# Altium footprint library BGA.PcbLib: 8 footprints
Each footprint in its own frame and in the unit in brackets; x right, y up, seen from the top. Pads: shape width x height; smd on the part's side, far side on the other; paste and mask are expansions set on the pad; w line width, h text height; cw(c..) or ccw(c..) is an arc to the next point about the centre after c.
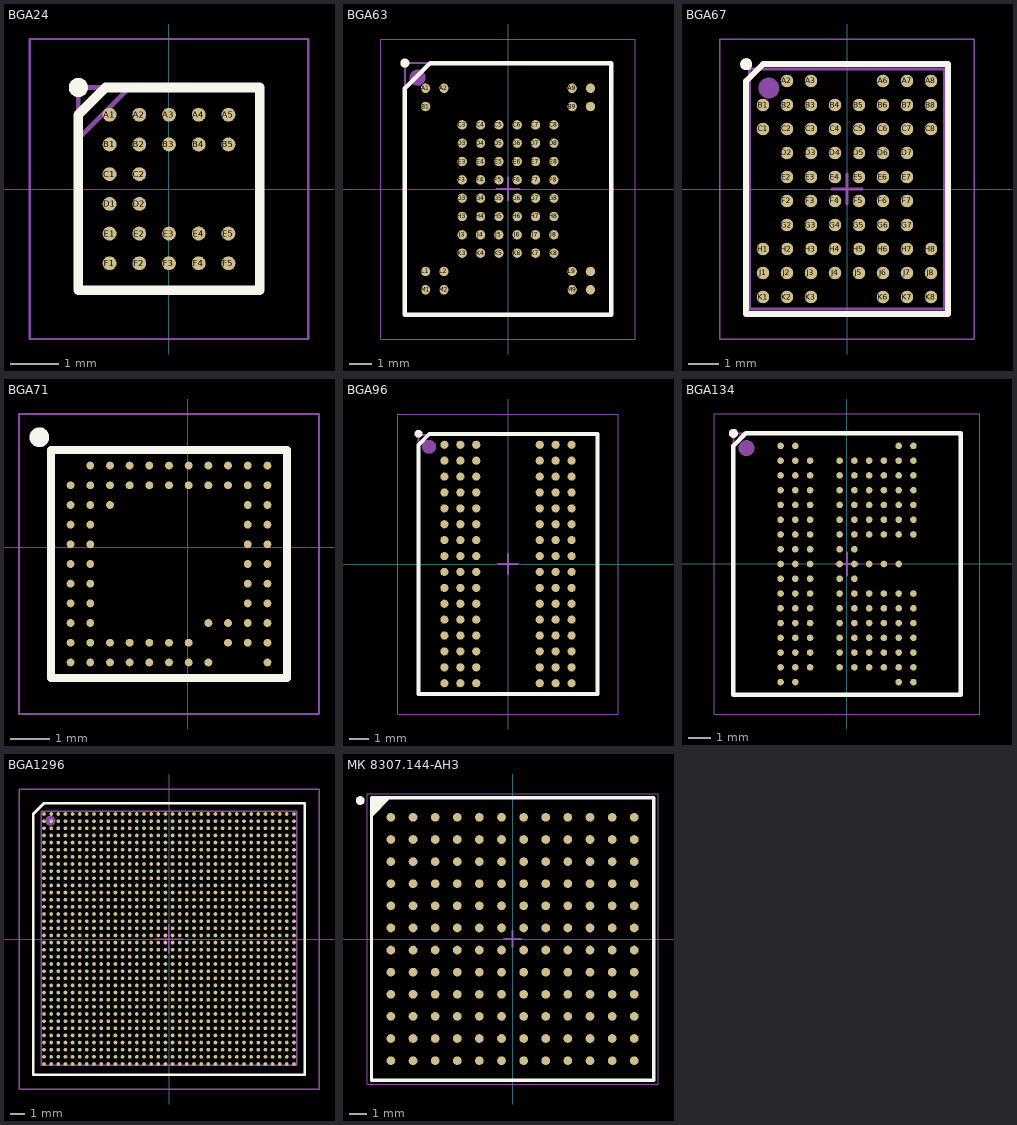
[diagram p0: the footprints below, top view; thin cyan lines are the x and y axes]

## BGA24 [mm]
height 1.75
pads (24):
  round 0.29 smd: A1(-1.24,1.55) A2(-0.62,1.55) A3(0,1.55) A4(0.62,1.55) A5(1.24,1.55) B1(-1.24,0.93) B2(-0.62,0.93) B3(0,0.93) B4(0.62,0.93) B5(1.24,0.93) C1(-1.24,0.31) C2(-0.62,0.31) D1(-1.24,-0.31) D2(-0.62,-0.31) E1(-1.24,-0.93) E2(-0.62,-0.93) E3(0,-0.93) E4(0.62,-0.93) E5(1.24,-0.93) F1(-1.24,-1.55) F2(-0.62,-1.55) F3(0,-1.55) F4(0.62,-1.55) F5(1.24,-1.55)
Top Overlay:
  circle w0.2: c-1.892,2.118 r0.1
  lines w0.2: -1.325,2.118 1.893,2.118 1.893,-2.117 -1.892,-2.117 -1.892,1.551 -1.324,2.119
Top Assembly:
  lines w0.1: -1.892,1.052 -0.827,2.117 ; -1.892,-2.117 -1.892,2.118 1.893,2.118 1.893,-2.117 -1.892,-2.117
Top Courtyard (Mech15):
  lines w0.05: -2.905,-3.13 -2.905,3.13 2.905,3.13 2.905,-3.13 -2.905,-3.13
3D body "OV7670-VL2A.stp": height 0.94, standoff 0, extent -1.893,-2.117 1.893,2.117

## BGA63 [mm]
pads (63):
  round 0.41 smd: A1(-3.6,4.4) A2(-2.8,4.4) A9(2.8,4.4) A10(3.6,4.4) B1(-3.6,3.6) B9(2.8,3.6) B10(3.6,3.6) C3(-2,2.8) C4(-1.2,2.8) C5(-0.4,2.8) C6(0.4,2.8) C7(1.2,2.8) C8(2,2.8) D3(-2,2) D4(-1.2,2) D5(-0.4,2) D6(0.4,2) D7(1.2,2) D8(2,2) E3(-2,1.2) E4(-1.2,1.2) E5(-0.4,1.2) E6(0.4,1.2) E7(1.2,1.2) E8(2,1.2) F3(-2,0.4) F4(-1.2,0.4) F5(-0.4,0.4) F6(0.4,0.4) F7(1.2,0.4) F8(2,0.4) G3(-2,-0.4) G4(-1.2,-0.4) G5(-0.4,-0.4) G6(0.4,-0.4) G7(1.2,-0.4) G8(2,-0.4) H3(-2,-1.2) H4(-1.2,-1.2) H5(-0.4,-1.2) H6(0.4,-1.2) H7(1.2,-1.2) H8(2,-1.2) J3(-2,-2) J4(-1.2,-2) J5(-0.4,-2) J6(0.4,-2) J7(1.2,-2) J8(2,-2) K3(-2,-2.8) K4(-1.2,-2.8) K5(-0.4,-2.8) K6(0.4,-2.8) K7(1.2,-2.8) K8(2,-2.8) L1(-3.6,-3.6) L2(-2.8,-3.6) L9(2.8,-3.6) L10(3.6,-3.6) M1(-3.6,-4.4) M2(-2.8,-4.4) M9(2.8,-4.4) M10(3.6,-4.4)
Top Overlay:
  circle w0.2: c-4.5,5.5 r0.1
  lines w0.2: -4.5,-5.5 -4.5,4.4 -3.4,5.5 4.5,5.5 4.5,-5.5 -4.5,-5.5
Top Assembly:
  circle w0.4: c-3.949,4.864 r0.148
  lines w0.1: -0.5,0 0.5,0 ; 0,-0.5 0,0.5 ; -4.5,-5.5 -4.5,5.5 4.5,5.5 4.5,-5.5 -4.5,-5.5
Top Courtyard (Mech15):
  lines w0.05: -5.55,-6.55 -5.55,6.55 5.55,6.55 5.55,-6.55 -5.55,-6.55
3D body "MT29F2G08ABAGAH4-AAT_G.stp": height 1, standoff 0, extent -4.5,-5.5 4.5,5.5

## BGA67 [mm]
pads (67):
  round 0.418 smd: A2(-2,3.6) A3(-1.2,3.6) A6(1.2,3.6) A7(2,3.6) A8(2.8,3.6) B1(-2.8,2.8) B2(-2,2.8) B3(-1.2,2.8) B4(-0.4,2.8) B5(0.4,2.8) B6(1.2,2.8) B7(2,2.8) B8(2.8,2.8) C1(-2.8,2) C2(-2,2) C3(-1.2,2) C4(-0.4,2) C5(0.4,2) C6(1.2,2) C7(2,2) C8(2.8,2) D2(-2,1.2) D3(-1.2,1.2) D4(-0.4,1.2) D5(0.4,1.2) D6(1.2,1.2) D7(2,1.2) E2(-2,0.4) E3(-1.2,0.4) E4(-0.4,0.4) E5(0.4,0.4) E6(1.2,0.4) E7(2,0.4) F2(-2,-0.4) F3(-1.2,-0.4) F4(-0.4,-0.4) F5(0.4,-0.4) F6(1.2,-0.4) F7(2,-0.4) G2(-2,-1.2) G3(-1.2,-1.2) G4(-0.4,-1.2) G5(0.4,-1.2) G6(1.2,-1.2) G7(2,-1.2) H1(-2.8,-2) H2(-2,-2) H3(-1.2,-2) H4(-0.4,-2) H5(0.4,-2) H6(1.2,-2) H7(2,-2) H8(2.8,-2) J1(-2.8,-2.8) J2(-2,-2.8) J3(-1.2,-2.8) J4(-0.4,-2.8) J5(0.4,-2.8) J6(1.2,-2.8) J7(2,-2.8) J8(2.8,-2.8) K1(-2.8,-3.6) K2(-2,-3.6) K3(-1.2,-3.6) K6(1.2,-3.6) K7(2,-3.6) K8(2.8,-3.6)
Top Overlay:
  circle w0.2: c-3.359,4.159 r0.1
  lines w0.2: -3.359,-4.159 3.359,-4.159 3.359,4.159 -2.8,4.159 -3.359,3.6 -3.359,-4.159
Top Assembly:
  circle w0.4: c-2.606,3.364 r0.148
  lines w0.1: -0.5,0 0.5,0 ; 0,-0.5 0,0.5 ; -3.25,-4 3.25,-4 3.25,4 -3.25,4 -3.25,-4
Top Courtyard (Mech15):
  lines w0.05: -4.25,-5 4.25,-5 4.25,5 -4.25,5 -4.25,-5
3D body "TH58BYG3S0HBAI6.stp": height 1, standoff 0, extent -3.25,-4 3.25,4

## BGA71 [mm]
pads (71):
  round 0.2 smd paste-1 mask+0: A2(-2.48,2.07) A3(-1.98,2.07) A4(-1.48,2.07) A5(-0.98,2.07) A6(-0.48,2.07) A7(0.02,2.07) A8(0.52,2.07) A9(1.02,2.07) A10(1.52,2.07) A11(2.02,2.07) B1(-2.98,1.57) B2(-2.48,1.57) B3(-1.98,1.57) B4(-1.48,1.57) B5(-0.98,1.57) B6(-0.48,1.57) B7(0.02,1.57) B8(0.52,1.57) B9(1.02,1.57) B10(1.52,1.57) B11(2.02,1.57) C1(-2.98,1.07) C2(-2.48,1.07) C3(-1.98,1.07) C10(1.52,1.07) C11(2.02,1.07) D1(-2.98,0.57) D2(-2.48,0.57) D10(1.52,0.57) D11(2.02,0.57) E1(-2.98,0.07) E2(-2.48,0.07) E10(1.52,0.07) E11(2.02,0.07) F1(-2.98,-0.43) F2(-2.48,-0.43) F10(1.52,-0.43) F11(2.02,-0.43) G1(-2.98,-0.93) G2(-2.48,-0.93) G10(1.52,-0.93) G11(2.02,-0.93) H1(-2.98,-1.43) H2(-2.48,-1.43) H10(1.52,-1.43) H11(2.02,-1.43) I1(-2.98,-1.93) I2(-2.48,-1.93) I8(0.52,-1.93) I9(1.02,-1.93) I10(1.52,-1.93) I11(2.02,-1.93) J1(-2.98,-2.43) J2(-2.48,-2.43) J3(-1.98,-2.43) J4(-1.48,-2.43) J5(-0.98,-2.43) J6(-0.48,-2.43) J7(0.02,-2.43) J9(1.02,-2.43) J10(1.52,-2.43) J11(2.02,-2.43) K1(-2.98,-2.93) K2(-2.48,-2.93) K3(-1.98,-2.93) K4(-1.48,-2.93) K5(-0.98,-2.93) K6(-0.48,-2.93) K7(0.02,-2.93) K8(0.52,-2.93) K11(2.02,-2.93)
Top Overlay:
  circle w0.3: c-3.772,2.788 r0.1
  lines w0.203: -3.48,-3.33 2.52,-3.33 2.52,2.47 -3.48,2.47 -3.48,-3.33
Top Assembly:
  lines w0.05: -3.528,-3.377 -3.528,2.512 2.568,2.512 2.568,-3.377 -3.528,-3.377
Top Courtyard (Mech15):
  lines w0.05: -4.29,-4.24 3.33,-4.24 3.33,3.38 -4.29,3.38 -4.29,-4.24

## BGA96 [mm]
pads (96):
  round 0.41 smd: A1(-3.2,6) A2(-2.4,6) A3(-1.6,6) A7(1.6,6) A8(2.4,6) A9(3.2,6) B1(-3.2,5.2) B2(-2.4,5.2) B3(-1.6,5.2) B7(1.6,5.2) B8(2.4,5.2) B9(3.2,5.2) C1(-3.2,4.4) C2(-2.4,4.4) C3(-1.6,4.4) C7(1.6,4.4) C8(2.4,4.4) C9(3.2,4.4) D1(-3.2,3.6) D2(-2.4,3.6) D3(-1.6,3.6) D7(1.6,3.6) D8(2.4,3.6) D9(3.2,3.6) E1(-3.2,2.8) E2(-2.4,2.8) E3(-1.6,2.8) E7(1.6,2.8) E8(2.4,2.8) E9(3.2,2.8) F1(-3.2,2) F2(-2.4,2) F3(-1.6,2) F7(1.6,2) F8(2.4,2) F9(3.2,2) G1(-3.2,1.2) G2(-2.4,1.2) G3(-1.6,1.2) G7(1.6,1.2) G8(2.4,1.2) G9(3.2,1.2) H1(-3.2,0.4) H2(-2.4,0.4) H3(-1.6,0.4) H7(1.6,0.4) H8(2.4,0.4) H9(3.2,0.4) J1(-3.2,-0.4) J2(-2.4,-0.4) J3(-1.6,-0.4) J7(1.6,-0.4) J8(2.4,-0.4) J9(3.2,-0.4) K1(-3.2,-1.2) K2(-2.4,-1.2) K3(-1.6,-1.2) K7(1.6,-1.2) K8(2.4,-1.2) K9(3.2,-1.2) L1(-3.2,-2) L2(-2.4,-2) L3(-1.6,-2) L7(1.6,-2) L8(2.4,-2) L9(3.2,-2) M1(-3.2,-2.8) M2(-2.4,-2.8) M3(-1.6,-2.8) M7(1.6,-2.8) M8(2.4,-2.8) M9(3.2,-2.8) N1(-3.2,-3.6) N2(-2.4,-3.6) N3(-1.6,-3.6) N7(1.6,-3.6) N8(2.4,-3.6) N9(3.2,-3.6) P1(-3.2,-4.4) P2(-2.4,-4.4) P3(-1.6,-4.4) P7(1.6,-4.4) P8(2.4,-4.4) P9(3.2,-4.4) R1(-3.2,-5.2) R2(-2.4,-5.2) R3(-1.6,-5.2) R7(1.6,-5.2) R8(2.4,-5.2) R9(3.2,-5.2) T1(-3.2,-6) T2(-2.4,-6) T3(-1.6,-6) T7(1.6,-6) T8(2.4,-6) T9(3.2,-6)
Top Overlay:
  circle w0.2: c-4.5,6.555 r0.1
  lines w0.2: -4.5,-6.555 4.5,-6.555 4.5,6.555 -3.945,6.555 -4.5,6 -4.5,-6.555
Top Assembly:
  circle w0.4: c-3.974,5.899 r0.148
  lines w0.1: -0.5,0 0.5,0 ; 0,-0.5 0,0.5 ; -4.5,-6.5 4.5,-6.5 4.5,6.5 -4.5,6.5 -4.5,-6.5
Top Courtyard (Mech15):
  lines w0.05: -5.55,-7.55 5.55,-7.55 5.55,7.55 -5.55,7.55 -5.55,-7.55
3D body "IS43TR16640C-125JBLI.stp": height 1.2, standoff 0, extent -4.5,-6.5 4.5,6.5

## BGA134 [mm]
pads (134):
  round 0.29 smd: A1(-2.925,5.2) A2(-2.275,5.2) A9(2.275,5.2) A10(2.925,5.2) B1(-2.925,4.55) B2(-2.275,4.55) B3(-1.625,4.55) B5(-0.325,4.55) B6(0.325,4.55) B7(0.975,4.55) B8(1.625,4.55) B9(2.275,4.55) B10(2.925,4.55) C1(-2.925,3.9) C2(-2.275,3.9) C3(-1.625,3.9) C5(-0.325,3.9) C6(0.325,3.9) C7(0.975,3.9) C8(1.625,3.9) C9(2.275,3.9) C10(2.925,3.9) D1(-2.925,3.25) D2(-2.275,3.25) D3(-1.625,3.25) D5(-0.325,3.25) D6(0.325,3.25) D7(0.975,3.25) D8(1.625,3.25) D9(2.275,3.25) D10(2.925,3.25) E1(-2.925,2.6) E2(-2.275,2.6) E3(-1.625,2.6) E5(-0.325,2.6) E6(0.325,2.6) E7(0.975,2.6) E8(1.625,2.6) E9(2.275,2.6) E10(2.925,2.6) F1(-2.925,1.95) F2(-2.275,1.95) F3(-1.625,1.95) F5(-0.325,1.95) F6(0.325,1.95) F7(0.975,1.95) F8(1.625,1.95) F9(2.275,1.95) F10(2.925,1.95) G1(-2.925,1.3) G2(-2.275,1.3) G3(-1.625,1.3) G5(-0.325,1.3) G6(0.325,1.3) G7(0.975,1.3) G8(1.625,1.3) G9(2.275,1.3) G10(2.925,1.3) H1(-2.925,0.65) H2(-2.275,0.65) H3(-1.625,0.65) H5(-0.325,0.65) H6(0.325,0.65) J1(-2.925,0) J2(-2.275,0) J3(-1.625,0) J5(-0.325,0) J6(0.325,0) J7(0.975,0) J8(1.625,0) J9(2.275,0) K1(-2.925,-0.65) K2(-2.275,-0.65) K3(-1.625,-0.65) K5(-0.325,-0.65) K6(0.325,-0.65) L1(-2.925,-1.3) L2(-2.275,-1.3) L3(-1.625,-1.3) L5(-0.325,-1.3) L6(0.325,-1.3) L7(0.975,-1.3) L8(1.625,-1.3) L9(2.275,-1.3) L10(2.925,-1.3) M1(-2.925,-1.95) M2(-2.275,-1.95) M3(-1.625,-1.95) M5(-0.325,-1.95) M6(0.325,-1.95) M7(0.975,-1.95) M8(1.625,-1.95) M9(2.275,-1.95) M10(2.925,-1.95) N1(-2.925,-2.6) N2(-2.275,-2.6) N3(-1.625,-2.6) N5(-0.325,-2.6) N6(0.325,-2.6) N7(0.975,-2.6) N8(1.625,-2.6) N9(2.275,-2.6) N10(2.925,-2.6) P1(-2.925,-3.25) P2(-2.275,-3.25) P3(-1.625,-3.25) P5(-0.325,-3.25) P6(0.325,-3.25) P7(0.975,-3.25) P8(1.625,-3.25) P9(2.275,-3.25) P10(2.925,-3.25) R1(-2.925,-3.9) R2(-2.275,-3.9) R3(-1.625,-3.9) R5(-0.325,-3.9) R6(0.325,-3.9) R7(0.975,-3.9) R8(1.625,-3.9) R9(2.275,-3.9) R10(2.925,-3.9) T1(-2.925,-4.55) T2(-2.275,-4.55) T3(-1.625,-4.55) T5(-0.325,-4.55) T6(0.325,-4.55) T7(0.975,-4.55) T8(1.625,-4.55) T9(2.275,-4.55) T10(2.925,-4.55) U1(-2.925,-5.2) U2(-2.275,-5.2) U9(2.275,-5.2) U10(2.925,-5.2)
Top Overlay:
  circle w0.2: c-5,5.75 r0.1
  lines w0.2: -5,-5.75 -5,5.2 -4.45,5.75 5,5.75 5,-5.75 -5,-5.75
Top Assembly:
  circle w0.4: c-4.424,5.101 r0.148
  lines w0.1: -0.5,0 0.5,0 ; 0,-0.5 0,0.5 ; -5,-5.75 -5,5.75 5,5.75 5,-5.75 -5,-5.75
Top Courtyard (Mech15):
  lines w0.05: -5.842,-6.604 -5.842,6.604 5.842,6.604 5.842,-6.604 -5.842,-6.604
3D body "AS4C64M16MD2A-25BIN.stp": height 1, standoff 0, extent -5,-5.75 5,5.75

## BGA1296 [mm]
height 2.5
pads (1296):
  round 0.26 smd mask+0.06: A1(-8.75,8.75) A2(-8.25,8.75) A3(-7.75,8.75) A4(-7.25,8.75) A5(-6.75,8.75) A6(-6.25,8.75) A7(-5.75,8.75) A8(-5.25,8.75) A9(-4.75,8.75) A10(-4.25,8.75) A11(-3.75,8.75) A12(-3.25,8.75) A13(-2.75,8.75) A14(-2.25,8.75) A15(-1.75,8.75) A16(-1.25,8.75) A17(-0.75,8.75) A18(-0.25,8.75) A19(0.25,8.75) A20(0.75,8.75) A21(1.25,8.75) A22(1.75,8.75) A23(2.25,8.75) A24(2.75,8.75) A25(3.25,8.75) A26(3.75,8.75) A27(4.25,8.75) A28(4.75,8.75) A29(5.25,8.75) A30(5.75,8.75) A31(6.25,8.75) A32(6.75,8.75) A33(7.25,8.75) A34(7.75,8.75) A35(8.25,8.75) A36(8.75,8.75) AA1(-8.75,-1.25) AA2(-8.25,-1.25) AA3(-7.75,-1.25) AA4(-7.25,-1.25) AA5(-6.75,-1.25) AA6(-6.25,-1.25) AA7(-5.75,-1.25) AA8(-5.25,-1.25) AA9(-4.75,-1.25) AA10(-4.25,-1.25) AA11(-3.75,-1.25) AA12(-3.25,-1.25) AA13(-2.75,-1.25) AA14(-2.25,-1.25) AA15(-1.75,-1.25) AA16(-1.25,-1.25) AA17(-0.75,-1.25) AA18(-0.25,-1.25) AA19(0.25,-1.25) AA20(0.75,-1.25) AA21(1.25,-1.25) AA22(1.75,-1.25) AA23(2.25,-1.25) AA24(2.75,-1.25) AA25(3.25,-1.25) AA26(3.75,-1.25) AA27(4.25,-1.25) AA28(4.75,-1.25) AA29(5.25,-1.25) AA30(5.75,-1.25) AA31(6.25,-1.25) AA32(6.75,-1.25) AA33(7.25,-1.25) AA34(7.75,-1.25) AA35(8.25,-1.25) AA36(8.75,-1.25) AB1(-8.75,-1.75) AB2(-8.25,-1.75) AB3(-7.75,-1.75) AB4(-7.25,-1.75) AB5(-6.75,-1.75) AB6(-6.25,-1.75) AB7(-5.75,-1.75) AB8(-5.25,-1.75) AB9(-4.75,-1.75) AB10(-4.25,-1.75) AB11(-3.75,-1.75) AB12(-3.25,-1.75) AB13(-2.75,-1.75) AB14(-2.25,-1.75) AB15(-1.75,-1.75) AB16(-1.25,-1.75) AB17(-0.75,-1.75) AB18(-0.25,-1.75) AB19(0.25,-1.75) AB20(0.75,-1.75) AB21(1.25,-1.75) AB22(1.75,-1.75) AB23(2.25,-1.75) AB24(2.75,-1.75) AB25(3.25,-1.75) AB26(3.75,-1.75) AB27(4.25,-1.75) AB28(4.75,-1.75) AB29(5.25,-1.75) AB30(5.75,-1.75) AB31(6.25,-1.75) AB32(6.75,-1.75) AB33(7.25,-1.75) AB34(7.75,-1.75) AB35(8.25,-1.75) AB36(8.75,-1.75) AC1(-8.75,-2.25) AC2(-8.25,-2.25) AC3(-7.75,-2.25) AC4(-7.25,-2.25) AC5(-6.75,-2.25) AC6(-6.25,-2.25) AC7(-5.75,-2.25) AC8(-5.25,-2.25) AC9(-4.75,-2.25) AC10(-4.25,-2.25) AC11(-3.75,-2.25) AC12(-3.25,-2.25) AC13(-2.75,-2.25) AC14(-2.25,-2.25) AC15(-1.75,-2.25) AC16(-1.25,-2.25) AC17(-0.75,-2.25) AC18(-0.25,-2.25) AC19(0.25,-2.25) AC20(0.75,-2.25) AC21(1.25,-2.25) AC22(1.75,-2.25) AC23(2.25,-2.25) AC24(2.75,-2.25) AC25(3.25,-2.25) AC26(3.75,-2.25) AC27(4.25,-2.25) AC28(4.75,-2.25) AC29(5.25,-2.25) AC30(5.75,-2.25) AC31(6.25,-2.25) AC32(6.75,-2.25) AC33(7.25,-2.25) AC34(7.75,-2.25) AC35(8.25,-2.25) AC36(8.75,-2.25) AD1(-8.75,-2.75) AD2(-8.25,-2.75) AD3(-7.75,-2.75) AD4(-7.25,-2.75) AD5(-6.75,-2.75) AD6(-6.25,-2.75) AD7(-5.75,-2.75) AD8(-5.25,-2.75) AD9(-4.75,-2.75) AD10(-4.25,-2.75) AD11(-3.75,-2.75) AD12(-3.25,-2.75) AD13(-2.75,-2.75) AD14(-2.25,-2.75) AD15(-1.75,-2.75) AD16(-1.25,-2.75) AD17(-0.75,-2.75) AD18(-0.25,-2.75) AD19(0.25,-2.75) AD20(0.75,-2.75) AD21(1.25,-2.75) AD22(1.75,-2.75) AD23(2.25,-2.75) AD24(2.75,-2.75) AD25(3.25,-2.75) AD26(3.75,-2.75) AD27(4.25,-2.75) AD28(4.75,-2.75) AD29(5.25,-2.75) AD30(5.75,-2.75) AD31(6.25,-2.75) AD32(6.75,-2.75) AD33(7.25,-2.75) AD34(7.75,-2.75) AD35(8.25,-2.75) AD36(8.75,-2.75) AE1(-8.75,-3.25) AE2(-8.25,-3.25) AE3(-7.75,-3.25) AE4(-7.25,-3.25) AE5(-6.75,-3.25) AE6(-6.25,-3.25) AE7(-5.75,-3.25) AE8(-5.25,-3.25) AE9(-4.75,-3.25) AE10(-4.25,-3.25) AE11(-3.75,-3.25) AE12(-3.25,-3.25) AE13(-2.75,-3.25) AE14(-2.25,-3.25) AE15(-1.75,-3.25) AE16(-1.25,-3.25) AE17(-0.75,-3.25) AE18(-0.25,-3.25) AE19(0.25,-3.25) AE20(0.75,-3.25) AE21(1.25,-3.25) AE22(1.75,-3.25) AE23(2.25,-3.25) AE24(2.75,-3.25) AE25(3.25,-3.25) AE26(3.75,-3.25) AE27(4.25,-3.25) AE28(4.75,-3.25) AE29(5.25,-3.25) AE30(5.75,-3.25) AE31(6.25,-3.25) AE32(6.75,-3.25) AE33(7.25,-3.25) AE34(7.75,-3.25) AE35(8.25,-3.25) AE36(8.75,-3.25) AF1(-8.75,-3.75) AF2(-8.25,-3.75) AF3(-7.75,-3.75) AF4(-7.25,-3.75) AF5(-6.75,-3.75) AF6(-6.25,-3.75) AF7(-5.75,-3.75) AF8(-5.25,-3.75) AF9(-4.75,-3.75) AF10(-4.25,-3.75) AF11(-3.75,-3.75) AF12(-3.25,-3.75) AF13(-2.75,-3.75) AF14(-2.25,-3.75) AF15(-1.75,-3.75) AF16(-1.25,-3.75) AF17(-0.75,-3.75) AF18(-0.25,-3.75) AF19(0.25,-3.75) AF20(0.75,-3.75) AF21(1.25,-3.75) AF22(1.75,-3.75) AF23(2.25,-3.75) AF24(2.75,-3.75) AF25(3.25,-3.75) AF26(3.75,-3.75) AF27(4.25,-3.75) AF28(4.75,-3.75) AF29(5.25,-3.75) AF30(5.75,-3.75) AF31(6.25,-3.75) AF32(6.75,-3.75) AF33(7.25,-3.75) AF34(7.75,-3.75) AF35(8.25,-3.75) AF36(8.75,-3.75) AG1(-8.75,-4.25) AG2(-8.25,-4.25) AG3(-7.75,-4.25) AG4(-7.25,-4.25) AG5(-6.75,-4.25) AG6(-6.25,-4.25) AG7(-5.75,-4.25) AG8(-5.25,-4.25) AG9(-4.75,-4.25) AG10(-4.25,-4.25) AG11(-3.75,-4.25) AG12(-3.25,-4.25) AG13(-2.75,-4.25) AG14(-2.25,-4.25) AG15(-1.75,-4.25) AG16(-1.25,-4.25) AG17(-0.75,-4.25) AG18(-0.25,-4.25) AG19(0.25,-4.25) AG20(0.75,-4.25) AG21(1.25,-4.25) AG22(1.75,-4.25) AG23(2.25,-4.25) AG24(2.75,-4.25) AG25(3.25,-4.25) AG26(3.75,-4.25) AG27(4.25,-4.25) AG28(4.75,-4.25) AG29(5.25,-4.25) AG30(5.75,-4.25) AG31(6.25,-4.25) AG32(6.75,-4.25) AG33(7.25,-4.25) AG34(7.75,-4.25) AG35(8.25,-4.25) AG36(8.75,-4.25) AH1(-8.75,-4.75) AH2(-8.25,-4.75) AH3(-7.75,-4.75) AH4(-7.25,-4.75) AH5(-6.75,-4.75) AH6(-6.25,-4.75) AH7(-5.75,-4.75) AH8(-5.25,-4.75) AH9(-4.75,-4.75) AH10(-4.25,-4.75) AH11(-3.75,-4.75) AH12(-3.25,-4.75) AH13(-2.75,-4.75) AH14(-2.25,-4.75) AH15(-1.75,-4.75) AH16(-1.25,-4.75) AH17(-0.75,-4.75) AH18(-0.25,-4.75) AH19(0.25,-4.75) AH20(0.75,-4.75) AH21(1.25,-4.75) AH22(1.75,-4.75) AH23(2.25,-4.75) AH24(2.75,-4.75) AH25(3.25,-4.75) AH26(3.75,-4.75) AH27(4.25,-4.75) AH28(4.75,-4.75) AH29(5.25,-4.75) AH30(5.75,-4.75) AH31(6.25,-4.75) AH32(6.75,-4.75) AH33(7.25,-4.75) AH34(7.75,-4.75) AH35(8.25,-4.75) AH36(8.75,-4.75) AJ1(-8.75,-5.25) AJ2(-8.25,-5.25) AJ3(-7.75,-5.25) AJ4(-7.25,-5.25) AJ5(-6.75,-5.25) AJ6(-6.25,-5.25) AJ7(-5.75,-5.25) AJ8(-5.25,-5.25) AJ9(-4.75,-5.25) AJ10(-4.25,-5.25) AJ11(-3.75,-5.25) AJ12(-3.25,-5.25) AJ13(-2.75,-5.25) AJ14(-2.25,-5.25) AJ15(-1.75,-5.25) AJ16(-1.25,-5.25) AJ17(-0.75,-5.25) AJ18(-0.25,-5.25) AJ19(0.25,-5.25) AJ20(0.75,-5.25) AJ21(1.25,-5.25) AJ22(1.75,-5.25) AJ23(2.25,-5.25) AJ24(2.75,-5.25) AJ25(3.25,-5.25) AJ26(3.75,-5.25) AJ27(4.25,-5.25) AJ28(4.75,-5.25) AJ29(5.25,-5.25) AJ30(5.75,-5.25) AJ31(6.25,-5.25) AJ32(6.75,-5.25) AJ33(7.25,-5.25) AJ34(7.75,-5.25) AJ35(8.25,-5.25) AJ36(8.75,-5.25) AK1(-8.75,-5.75) AK2(-8.25,-5.75) AK3(-7.75,-5.75) AK4(-7.25,-5.75) AK5(-6.75,-5.75) AK6(-6.25,-5.75) AK7(-5.75,-5.75) AK8(-5.25,-5.75) AK9(-4.75,-5.75) AK10(-4.25,-5.75) AK11(-3.75,-5.75) AK12(-3.25,-5.75) AK13(-2.75,-5.75) AK14(-2.25,-5.75) AK15(-1.75,-5.75) AK16(-1.25,-5.75) AK17(-0.75,-5.75) AK18(-0.25,-5.75) AK19(0.25,-5.75) AK20(0.75,-5.75) AK21(1.25,-5.75) AK22(1.75,-5.75) AK23(2.25,-5.75) AK24(2.75,-5.75) AK25(3.25,-5.75) AK26(3.75,-5.75) AK27(4.25,-5.75) AK28(4.75,-5.75) AK29(5.25,-5.75) AK30(5.75,-5.75) AK31(6.25,-5.75) AK32(6.75,-5.75) AK33(7.25,-5.75) AK34(7.75,-5.75) AK35(8.25,-5.75) AK36(8.75,-5.75) AL1(-8.75,-6.25) AL2(-8.25,-6.25) AL3(-7.75,-6.25) AL4(-7.25,-6.25) AL5(-6.75,-6.25) AL6(-6.25,-6.25) AL7(-5.75,-6.25) AL8(-5.25,-6.25) AL9(-4.75,-6.25) AL10(-4.25,-6.25) AL11(-3.75,-6.25) AL12(-3.25,-6.25) AL13(-2.75,-6.25) AL14(-2.25,-6.25) AL15(-1.75,-6.25) AL16(-1.25,-6.25) AL17(-0.75,-6.25) AL18(-0.25,-6.25) AL19(0.25,-6.25) AL20(0.75,-6.25) AL21(1.25,-6.25) AL22(1.75,-6.25) AL23(2.25,-6.25) AL24(2.75,-6.25) AL25(3.25,-6.25) AL26(3.75,-6.25) AL27(4.25,-6.25) AL28(4.75,-6.25) AL29(5.25,-6.25) AL30(5.75,-6.25) AL31(6.25,-6.25) AL32(6.75,-6.25) AL33(7.25,-6.25) AL34(7.75,-6.25) AL35(8.25,-6.25) AL36(8.75,-6.25) AM1(-8.75,-6.75) AM2(-8.25,-6.75) AM3(-7.75,-6.75) AM4(-7.25,-6.75) AM5(-6.75,-6.75) AM6(-6.25,-6.75) AM7(-5.75,-6.75) AM8(-5.25,-6.75) AM9(-4.75,-6.75) AM10(-4.25,-6.75) AM11(-3.75,-6.75) AM12(-3.25,-6.75) AM13(-2.75,-6.75) AM14(-2.25,-6.75) AM15(-1.75,-6.75) AM16(-1.25,-6.75) AM17(-0.75,-6.75) AM18(-0.25,-6.75) AM19(0.25,-6.75) AM20(0.75,-6.75) AM21(1.25,-6.75) AM22(1.75,-6.75) AM23(2.25,-6.75) AM24(2.75,-6.75) AM25(3.25,-6.75) AM26(3.75,-6.75) AM27(4.25,-6.75) AM28(4.75,-6.75) AM29(5.25,-6.75) AM30(5.75,-6.75) AM31(6.25,-6.75) AM32(6.75,-6.75) AM33(7.25,-6.75) AM34(7.75,-6.75) AM35(8.25,-6.75) AM36(8.75,-6.75) AN1(-8.75,-7.25) AN2(-8.25,-7.25) AN3(-7.75,-7.25) AN4(-7.25,-7.25) AN5(-6.75,-7.25) AN6(-6.25,-7.25) AN7(-5.75,-7.25) AN8(-5.25,-7.25) AN9(-4.75,-7.25) AN10(-4.25,-7.25) AN11(-3.75,-7.25) AN12(-3.25,-7.25) AN13(-2.75,-7.25) AN14(-2.25,-7.25) AN15(-1.75,-7.25) AN16(-1.25,-7.25) AN17(-0.75,-7.25) AN18(-0.25,-7.25) AN19(0.25,-7.25) AN20(0.75,-7.25) AN21(1.25,-7.25) AN22(1.75,-7.25) AN23(2.25,-7.25) AN24(2.75,-7.25) AN25(3.25,-7.25) AN26(3.75,-7.25) AN27(4.25,-7.25) AN28(4.75,-7.25) AN29(5.25,-7.25) AN30(5.75,-7.25) AN31(6.25,-7.25) AN32(6.75,-7.25) AN33(7.25,-7.25) AN34(7.75,-7.25) AN35(8.25,-7.25) AN36(8.75,-7.25) AP1(-8.75,-7.75) AP2(-8.25,-7.75) AP3(-7.75,-7.75) AP4(-7.25,-7.75) AP5(-6.75,-7.75) AP6(-6.25,-7.75) AP7(-5.75,-7.75) AP8(-5.25,-7.75) AP9(-4.75,-7.75) AP10(-4.25,-7.75) AP11(-3.75,-7.75) AP12(-3.25,-7.75) AP13(-2.75,-7.75) AP14(-2.25,-7.75) AP15(-1.75,-7.75) AP16(-1.25,-7.75) AP17(-0.75,-7.75) AP18(-0.25,-7.75) AP19(0.25,-7.75) AP20(0.75,-7.75) AP21(1.25,-7.75) AP22(1.75,-7.75) AP23(2.25,-7.75) AP24(2.75,-7.75) AP25(3.25,-7.75) AP26(3.75,-7.75) AP27(4.25,-7.75) AP28(4.75,-7.75) AP29(5.25,-7.75) AP30(5.75,-7.75) AP31(6.25,-7.75) AP32(6.75,-7.75) AP33(7.25,-7.75) AP34(7.75,-7.75) AP35(8.25,-7.75) AP36(8.75,-7.75) AR1(-8.75,-8.25) AR2(-8.25,-8.25) AR3(-7.75,-8.25) AR4(-7.25,-8.25) AR5(-6.75,-8.25) AR6(-6.25,-8.25) AR7(-5.75,-8.25) AR8(-5.25,-8.25) AR9(-4.75,-8.25) AR10(-4.25,-8.25) AR11(-3.75,-8.25) AR12(-3.25,-8.25) AR13(-2.75,-8.25) AR14(-2.25,-8.25) AR15(-1.75,-8.25) AR16(-1.25,-8.25) AR17(-0.75,-8.25) AR18(-0.25,-8.25) AR19(0.25,-8.25) AR20(0.75,-8.25) AR21(1.25,-8.25) AR22(1.75,-8.25) AR23(2.25,-8.25) AR24(2.75,-8.25) AR25(3.25,-8.25) AR26(3.75,-8.25) AR27(4.25,-8.25) AR28(4.75,-8.25) AR29(5.25,-8.25) AR30(5.75,-8.25) AR31(6.25,-8.25) AR32(6.75,-8.25) AR33(7.25,-8.25) AR34(7.75,-8.25) AR35(8.25,-8.25) AR36(8.75,-8.25) AT1(-8.75,-8.75) AT2(-8.25,-8.75) AT3(-7.75,-8.75) AT4(-7.25,-8.75) AT5(-6.75,-8.75) AT6(-6.25,-8.75) AT7(-5.75,-8.75) AT8(-5.25,-8.75) AT9(-4.75,-8.75) AT10(-4.25,-8.75) AT11(-3.75,-8.75) AT12(-3.25,-8.75) AT13(-2.75,-8.75) AT14(-2.25,-8.75) AT15(-1.75,-8.75) AT16(-1.25,-8.75) AT17(-0.75,-8.75) AT18(-0.25,-8.75) AT19(0.25,-8.75) AT20(0.75,-8.75) AT21(1.25,-8.75) AT22(1.75,-8.75) AT23(2.25,-8.75) AT24(2.75,-8.75) AT25(3.25,-8.75) AT26(3.75,-8.75) AT27(4.25,-8.75) AT28(4.75,-8.75) AT29(5.25,-8.75) AT30(5.75,-8.75) AT31(6.25,-8.75) AT32(6.75,-8.75) AT33(7.25,-8.75) AT34(7.75,-8.75) AT35(8.25,-8.75) AT36(8.75,-8.75) B1(-8.75,8.25) B2(-8.25,8.25) B3(-7.75,8.25) B4(-7.25,8.25) B5(-6.75,8.25) B6(-6.25,8.25) B7(-5.75,8.25) B8(-5.25,8.25) B9(-4.75,8.25) B10(-4.25,8.25) B11(-3.75,8.25) B12(-3.25,8.25) B13(-2.75,8.25) B14(-2.25,8.25) B15(-1.75,8.25) B16(-1.25,8.25) B17(-0.75,8.25) B18(-0.25,8.25) B19(0.25,8.25) B20(0.75,8.25) B21(1.25,8.25) B22(1.75,8.25) B23(2.25,8.25) B24(2.75,8.25) B25(3.25,8.25) B26(3.75,8.25) B27(4.25,8.25) B28(4.75,8.25) B29(5.25,8.25) B30(5.75,8.25) B31(6.25,8.25) B32(6.75,8.25) B33(7.25,8.25) B34(7.75,8.25) B35(8.25,8.25) B36(8.75,8.25) C1(-8.75,7.75) C2(-8.25,7.75) C3(-7.75,7.75) C4(-7.25,7.75) C5(-6.75,7.75) C6(-6.25,7.75) C7(-5.75,7.75) C8(-5.25,7.75) C9(-4.75,7.75) C10(-4.25,7.75) C11(-3.75,7.75) C12(-3.25,7.75) C13(-2.75,7.75) C14(-2.25,7.75) C15(-1.75,7.75) C16(-1.25,7.75) C17(-0.75,7.75) C18(-0.25,7.75) C19(0.25,7.75) C20(0.75,7.75) C21(1.25,7.75) C22(1.75,7.75) C23(2.25,7.75) C24(2.75,7.75) C25(3.25,7.75) C26(3.75,7.75) C27(4.25,7.75) C28(4.75,7.75) C29(5.25,7.75) C30(5.75,7.75) C31(6.25,7.75) C32(6.75,7.75) C33(7.25,7.75) C34(7.75,7.75) C35(8.25,7.75) C36(8.75,7.75) D1(-8.75,7.25) D2(-8.25,7.25) D3(-7.75,7.25) D4(-7.25,7.25) D5(-6.75,7.25) D6(-6.25,7.25) D7(-5.75,7.25) D8(-5.25,7.25) D9(-4.75,7.25) D10(-4.25,7.25) D11(-3.75,7.25) D12(-3.25,7.25) D13(-2.75,7.25) D14(-2.25,7.25) D15(-1.75,7.25) D16(-1.25,7.25) D17(-0.75,7.25) D18(-0.25,7.25) D19(0.25,7.25) D20(0.75,7.25) D21(1.25,7.25) D22(1.75,7.25) D23(2.25,7.25) D24(2.75,7.25) D25(3.25,7.25) D26(3.75,7.25) D27(4.25,7.25) D28(4.75,7.25) D29(5.25,7.25) D30(5.75,7.25) D31(6.25,7.25) D32(6.75,7.25) D33(7.25,7.25) D34(7.75,7.25) D35(8.25,7.25) D36(8.75,7.25) E1(-8.75,6.75) E2(-8.25,6.75) E3(-7.75,6.75) E4(-7.25,6.75) E5(-6.75,6.75) E6(-6.25,6.75) E7(-5.75,6.75) E8(-5.25,6.75) E9(-4.75,6.75) E10(-4.25,6.75) E11(-3.75,6.75) E12(-3.25,6.75) E13(-2.75,6.75) E14(-2.25,6.75) E15(-1.75,6.75) E16(-1.25,6.75) E17(-0.75,6.75) E18(-0.25,6.75) E19(0.25,6.75) E20(0.75,6.75) E21(1.25,6.75) E22(1.75,6.75) E23(2.25,6.75) E24(2.75,6.75) E25(3.25,6.75) E26(3.75,6.75) E27(4.25,6.75) E28(4.75,6.75) E29(5.25,6.75) E30(5.75,6.75) E31(6.25,6.75) E32(6.75,6.75) E33(7.25,6.75) E34(7.75,6.75) E35(8.25,6.75) E36(8.75,6.75) F1(-8.75,6.25) F2(-8.25,6.25) F3(-7.75,6.25) F4(-7.25,6.25) F5(-6.75,6.25) F6(-6.25,6.25) F7(-5.75,6.25) F8(-5.25,6.25) F9(-4.75,6.25) F10(-4.25,6.25) F11(-3.75,6.25) F12(-3.25,6.25) F13(-2.75,6.25) F14(-2.25,6.25) F15(-1.75,6.25) F16(-1.25,6.25) F17(-0.75,6.25) F18(-0.25,6.25) F19(0.25,6.25) F20(0.75,6.25) F21(1.25,6.25) F22(1.75,6.25) F23(2.25,6.25) F24(2.75,6.25) F25(3.25,6.25) F26(3.75,6.25) F27(4.25,6.25) F28(4.75,6.25) F29(5.25,6.25) F30(5.75,6.25) F31(6.25,6.25) F32(6.75,6.25) F33(7.25,6.25) F34(7.75,6.25) F35(8.25,6.25) F36(8.75,6.25) G1(-8.75,5.75) G2(-8.25,5.75) G3(-7.75,5.75) G4(-7.25,5.75) G5(-6.75,5.75) G6(-6.25,5.75) G7(-5.75,5.75) G8(-5.25,5.75) G9(-4.75,5.75) G10(-4.25,5.75) G11(-3.75,5.75) G12(-3.25,5.75) G13(-2.75,5.75) G14(-2.25,5.75) G15(-1.75,5.75) G16(-1.25,5.75) G17(-0.75,5.75) G18(-0.25,5.75) G19(0.25,5.75) G20(0.75,5.75) G21(1.25,5.75) G22(1.75,5.75) G23(2.25,5.75) G24(2.75,5.75) G25(3.25,5.75) G26(3.75,5.75) G27(4.25,5.75) G28(4.75,5.75) G29(5.25,5.75) G30(5.75,5.75) G31(6.25,5.75) G32(6.75,5.75) G33(7.25,5.75) G34(7.75,5.75) G35(8.25,5.75) G36(8.75,5.75) H1(-8.75,5.25) H2(-8.25,5.25) H3(-7.75,5.25) H4(-7.25,5.25) H5(-6.75,5.25) H6(-6.25,5.25) H7(-5.75,5.25) H8(-5.25,5.25) H9(-4.75,5.25) H10(-4.25,5.25) H11(-3.75,5.25) H12(-3.25,5.25) H13(-2.75,5.25) H14(-2.25,5.25) H15(-1.75,5.25) H16(-1.25,5.25) H17(-0.75,5.25) H18(-0.25,5.25) H19(0.25,5.25) H20(0.75,5.25) H21(1.25,5.25) H22(1.75,5.25) H23(2.25,5.25) H24(2.75,5.25) H25(3.25,5.25) H26(3.75,5.25) H27(4.25,5.25) H28(4.75,5.25) H29(5.25,5.25) H30(5.75,5.25) H31(6.25,5.25) H32(6.75,5.25) H33(7.25,5.25) H34(7.75,5.25) H35(8.25,5.25) H36(8.75,5.25) J1(-8.75,4.75) J2(-8.25,4.75) J3(-7.75,4.75) J4(-7.25,4.75) J5(-6.75,4.75) J6(-6.25,4.75) J7(-5.75,4.75) J8(-5.25,4.75) J9(-4.75,4.75) J10(-4.25,4.75) J11(-3.75,4.75) J12(-3.25,4.75) J13(-2.75,4.75) J14(-2.25,4.75) J15(-1.75,4.75) J16(-1.25,4.75) J17(-0.75,4.75) J18(-0.25,4.75) J19(0.25,4.75) J20(0.75,4.75) J21(1.25,4.75) J22(1.75,4.75) J23(2.25,4.75) J24(2.75,4.75) J25(3.25,4.75) J26(3.75,4.75) J27(4.25,4.75) J28(4.75,4.75) J29(5.25,4.75) J30(5.75,4.75) J31(6.25,4.75) J32(6.75,4.75) J33(7.25,4.75) J34(7.75,4.75) J35(8.25,4.75) J36(8.75,4.75) K1(-8.75,4.25) K2(-8.25,4.25) K3(-7.75,4.25) K4(-7.25,4.25) K5(-6.75,4.25) K6(-6.25,4.25) K7(-5.75,4.25) K8(-5.25,4.25) K9(-4.75,4.25) K10(-4.25,4.25) K11(-3.75,4.25) K12(-3.25,4.25) K13(-2.75,4.25) K14(-2.25,4.25) K15(-1.75,4.25) K16(-1.25,4.25) K17(-0.75,4.25) K18(-0.25,4.25) K19(0.25,4.25) K20(0.75,4.25) K21(1.25,4.25) K22(1.75,4.25) K23(2.25,4.25) K24(2.75,4.25) K25(3.25,4.25) K26(3.75,4.25) K27(4.25,4.25) K28(4.75,4.25) K29(5.25,4.25) K30(5.75,4.25) K31(6.25,4.25) K32(6.75,4.25) K33(7.25,4.25) K34(7.75,4.25) K35(8.25,4.25) K36(8.75,4.25) L1(-8.75,3.75) L2(-8.25,3.75) L3(-7.75,3.75) L4(-7.25,3.75) L5(-6.75,3.75) L6(-6.25,3.75) L7(-5.75,3.75) L8(-5.25,3.75) L9(-4.75,3.75) L10(-4.25,3.75) L11(-3.75,3.75) L12(-3.25,3.75) L13(-2.75,3.75) L14(-2.25,3.75) L15(-1.75,3.75) L16(-1.25,3.75) L17(-0.75,3.75) L18(-0.25,3.75) L19(0.25,3.75) L20(0.75,3.75) L21(1.25,3.75) L22(1.75,3.75) L23(2.25,3.75) L24(2.75,3.75) L25(3.25,3.75) L26(3.75,3.75) L27(4.25,3.75) L28(4.75,3.75) L29(5.25,3.75) L30(5.75,3.75) L31(6.25,3.75) L32(6.75,3.75) L33(7.25,3.75) L34(7.75,3.75) L35(8.25,3.75) L36(8.75,3.75) M1(-8.75,3.25) M2(-8.25,3.25) M3(-7.75,3.25) M4(-7.25,3.25) M5(-6.75,3.25) M6(-6.25,3.25) M7(-5.75,3.25) M8(-5.25,3.25) M9(-4.75,3.25) M10(-4.25,3.25) M11(-3.75,3.25) M12(-3.25,3.25) M13(-2.75,3.25) M14(-2.25,3.25) M15(-1.75,3.25) M16(-1.25,3.25) M17(-0.75,3.25) M18(-0.25,3.25) M19(0.25,3.25) M20(0.75,3.25) M21(1.25,3.25) M22(1.75,3.25) M23(2.25,3.25) M24(2.75,3.25) M25(3.25,3.25) M26(3.75,3.25) M27(4.25,3.25) M28(4.75,3.25) M29(5.25,3.25) M30(5.75,3.25) M31(6.25,3.25) M32(6.75,3.25) M33(7.25,3.25) M34(7.75,3.25) M35(8.25,3.25) M36(8.75,3.25) N1(-8.75,2.75) N2(-8.25,2.75) N3(-7.75,2.75) N4(-7.25,2.75) N5(-6.75,2.75) N6(-6.25,2.75) N7(-5.75,2.75) N8(-5.25,2.75) N9(-4.75,2.75) N10(-4.25,2.75) N11(-3.75,2.75) N12(-3.25,2.75) N13(-2.75,2.75) N14(-2.25,2.75) N15(-1.75,2.75) N16(-1.25,2.75) N17(-0.75,2.75) N18(-0.25,2.75) N19(0.25,2.75) N20(0.75,2.75) N21(1.25,2.75) N22(1.75,2.75) N23(2.25,2.75) N24(2.75,2.75) N25(3.25,2.75) N26(3.75,2.75) N27(4.25,2.75) N28(4.75,2.75) N29(5.25,2.75) N30(5.75,2.75) N31(6.25,2.75) N32(6.75,2.75) N33(7.25,2.75) N34(7.75,2.75) N35(8.25,2.75) N36(8.75,2.75) P1(-8.75,2.25) P2(-8.25,2.25) P3(-7.75,2.25) P4(-7.25,2.25) P5(-6.75,2.25) P6(-6.25,2.25) P7(-5.75,2.25) P8(-5.25,2.25) P9(-4.75,2.25) P10(-4.25,2.25) P11(-3.75,2.25) P12(-3.25,2.25) P13(-2.75,2.25) P14(-2.25,2.25) P15(-1.75,2.25) P16(-1.25,2.25) P17(-0.75,2.25) P18(-0.25,2.25) P19(0.25,2.25) P20(0.75,2.25) P21(1.25,2.25) P22(1.75,2.25) P23(2.25,2.25) P24(2.75,2.25) P25(3.25,2.25) P26(3.75,2.25) P27(4.25,2.25) P28(4.75,2.25) P29(5.25,2.25) P30(5.75,2.25) P31(6.25,2.25) P32(6.75,2.25) P33(7.25,2.25) P34(7.75,2.25) P35(8.25,2.25) P36(8.75,2.25) R1(-8.75,1.75) R2(-8.25,1.75) R3(-7.75,1.75) R4(-7.25,1.75) R5(-6.75,1.75) R6(-6.25,1.75) R7(-5.75,1.75) R8(-5.25,1.75) R9(-4.75,1.75) R10(-4.25,1.75) R11(-3.75,1.75) R12(-3.25,1.75) R13(-2.75,1.75) R14(-2.25,1.75) R15(-1.75,1.75) R16(-1.25,1.75) R17(-0.75,1.75) R18(-0.25,1.75) R19(0.25,1.75) R20(0.75,1.75) R21(1.25,1.75) R22(1.75,1.75) R23(2.25,1.75) R24(2.75,1.75) R25(3.25,1.75) R26(3.75,1.75) R27(4.25,1.75) R28(4.75,1.75) R29(5.25,1.75) R30(5.75,1.75) R31(6.25,1.75) R32(6.75,1.75) R33(7.25,1.75) R34(7.75,1.75) R35(8.25,1.75) R36(8.75,1.75) T1(-8.75,1.25) T2(-8.25,1.25) T3(-7.75,1.25) T4(-7.25,1.25) T5(-6.75,1.25) T6(-6.25,1.25) T7(-5.75,1.25) T8(-5.25,1.25) T9(-4.75,1.25) T10(-4.25,1.25) T11(-3.75,1.25) T12(-3.25,1.25) T13(-2.75,1.25) T14(-2.25,1.25) T15(-1.75,1.25) T16(-1.25,1.25) T17(-0.75,1.25) T18(-0.25,1.25) T19(0.25,1.25) T20(0.75,1.25) T21(1.25,1.25) T22(1.75,1.25) T23(2.25,1.25) T24(2.75,1.25) T25(3.25,1.25) T26(3.75,1.25) T27(4.25,1.25) T28(4.75,1.25) T29(5.25,1.25) T30(5.75,1.25) T31(6.25,1.25) T32(6.75,1.25) T33(7.25,1.25) T34(7.75,1.25) T35(8.25,1.25) T36(8.75,1.25) U1(-8.75,0.75) U2(-8.25,0.75) U3(-7.75,0.75) U4(-7.25,0.75) U5(-6.75,0.75) U6(-6.25,0.75) U7(-5.75,0.75) U8(-5.25,0.75) U9(-4.75,0.75) U10(-4.25,0.75) U11(-3.75,0.75) U12(-3.25,0.75) U13(-2.75,0.75) U14(-2.25,0.75) U15(-1.75,0.75) U16(-1.25,0.75) U17(-0.75,0.75) U18(-0.25,0.75) U19(0.25,0.75) U20(0.75,0.75) U21(1.25,0.75) U22(1.75,0.75) U23(2.25,0.75) U24(2.75,0.75) U25(3.25,0.75) U26(3.75,0.75) U27(4.25,0.75) U28(4.75,0.75) U29(5.25,0.75) U30(5.75,0.75) U31(6.25,0.75) U32(6.75,0.75) U33(7.25,0.75) U34(7.75,0.75) U35(8.25,0.75) U36(8.75,0.75) V1(-8.75,0.25) V2(-8.25,0.25) V3(-7.75,0.25) V4(-7.25,0.25) V5(-6.75,0.25) V6(-6.25,0.25) V7(-5.75,0.25) V8(-5.25,0.25) V9(-4.75,0.25) V10(-4.25,0.25) V11(-3.75,0.25) V12(-3.25,0.25) V13(-2.75,0.25) V14(-2.25,0.25) V15(-1.75,0.25) V16(-1.25,0.25) V17(-0.75,0.25) V18(-0.25,0.25) V19(0.25,0.25) V20(0.75,0.25) V21(1.25,0.25) V22(1.75,0.25) V23(2.25,0.25) V24(2.75,0.25) V25(3.25,0.25) V26(3.75,0.25) V27(4.25,0.25) V28(4.75,0.25) V29(5.25,0.25) V30(5.75,0.25) V31(6.25,0.25) V32(6.75,0.25) V33(7.25,0.25) V34(7.75,0.25) V35(8.25,0.25) V36(8.75,0.25) W1(-8.75,-0.25) W2(-8.25,-0.25) W3(-7.75,-0.25) W4(-7.25,-0.25) W5(-6.75,-0.25) W6(-6.25,-0.25) W7(-5.75,-0.25) W8(-5.25,-0.25) W9(-4.75,-0.25) W10(-4.25,-0.25) W11(-3.75,-0.25) W12(-3.25,-0.25) W13(-2.75,-0.25) W14(-2.25,-0.25) W15(-1.75,-0.25) W16(-1.25,-0.25) W17(-0.75,-0.25) W18(-0.25,-0.25) W19(0.25,-0.25) W20(0.75,-0.25) W21(1.25,-0.25) W22(1.75,-0.25) W23(2.25,-0.25) W24(2.75,-0.25) W25(3.25,-0.25) W26(3.75,-0.25) W27(4.25,-0.25) W28(4.75,-0.25) W29(5.25,-0.25) W30(5.75,-0.25) W31(6.25,-0.25) W32(6.75,-0.25) W33(7.25,-0.25) W34(7.75,-0.25) W35(8.25,-0.25) W36(8.75,-0.25) Y1(-8.75,-0.75) Y2(-8.25,-0.75) Y3(-7.75,-0.75) Y4(-7.25,-0.75) Y5(-6.75,-0.75) Y6(-6.25,-0.75) Y7(-5.75,-0.75) Y8(-5.25,-0.75) Y9(-4.75,-0.75) Y10(-4.25,-0.75) Y11(-3.75,-0.75) Y12(-3.25,-0.75) Y13(-2.75,-0.75) Y14(-2.25,-0.75) Y15(-1.75,-0.75) Y16(-1.25,-0.75) Y17(-0.75,-0.75) Y18(-0.25,-0.75) Y19(0.25,-0.75) Y20(0.75,-0.75) Y21(1.25,-0.75) Y22(1.75,-0.75) Y23(2.25,-0.75) Y24(2.75,-0.75) Y25(3.25,-0.75) Y26(3.75,-0.75) Y27(4.25,-0.75) Y28(4.75,-0.75) Y29(5.25,-0.75) Y30(5.75,-0.75) Y31(6.25,-0.75) Y32(6.75,-0.75) Y33(7.25,-0.75) Y34(7.75,-0.75) Y35(8.25,-0.75) Y36(8.75,-0.75)
Top Overlay:
  lines w0.2: -9.5,-9.5 -9.5,8.75 -8.75,9.5 9.5,9.5 9.5,-9.5 -9.5,-9.5
Top Assembly:
  circle w0.4: c-8.309,8.276 r0.148
  lines w0.1: -1,0 1,0 ; 0,-1 0,1 ; -8.95,-8.85 8.95,-8.85 8.95,8.95 -8.95,8.95 -8.95,-8.85
Top Courtyard (Mech15):
  lines w0.1: -10.5,-10.5 -10.5,10.5 10.5,10.5 10.5,-10.5 -10.5,-10.5
3D body: height 2.5, standoff 1.65, extent -5.15,-5.05 4.85,4.95
3D body: height 1.65, standoff 1.15, extent -8.949,-8.85 8.95,8.949
3D body: height 1.15, standoff 0, extent -9.5,-9.501 9.501,9.5

## МК 8307.144-АНЗ [mm]
pads (144):
  round 0.5 smd: A1(-6.985,6.985) A2(-5.715,6.985) A3(-4.445,6.985) A4(-3.175,6.985) A5(-1.905,6.985) A6(-0.635,6.985) A7(0.635,6.985) A8(1.905,6.985) A9(3.175,6.985) A10(4.445,6.985) A11(5.715,6.985) A12(6.985,6.985) B1(-6.985,5.715) B2(-5.715,5.715) B3(-4.445,5.715) B4(-3.175,5.715) B5(-1.905,5.715) B6(-0.635,5.715) B7(0.635,5.715) B8(1.905,5.715) B9(3.175,5.715) B10(4.445,5.715) B11(5.715,5.715) B12(6.985,5.715) C1(-6.985,4.445) C2(-5.715,4.445) C3(-4.445,4.445) C4(-3.175,4.445) C5(-1.905,4.445) C6(-0.635,4.445) C7(0.635,4.445) C8(1.905,4.445) C9(3.175,4.445) C10(4.445,4.445) C11(5.715,4.445) C12(6.985,4.445) D1(-6.985,3.175) D2(-5.715,3.175) D3(-4.445,3.175) D4(-3.175,3.175) D5(-1.905,3.175) D6(-0.635,3.175) D7(0.635,3.175) D8(1.905,3.175) D9(3.175,3.175) D10(4.445,3.175) D11(5.715,3.175) D12(6.985,3.175) E1(-6.985,1.905) E2(-5.715,1.905) E3(-4.445,1.905) E4(-3.175,1.905) E5(-1.905,1.905) E6(-0.635,1.905) E7(0.635,1.905) E8(1.905,1.905) E9(3.175,1.905) E10(4.445,1.905) E11(5.715,1.905) E12(6.985,1.905) F1(-6.985,0.635) F2(-5.715,0.635) F3(-4.445,0.635) F4(-3.175,0.635) F5(-1.905,0.635) F6(-0.635,0.635) F7(0.635,0.635) F8(1.905,0.635) F9(3.175,0.635) F10(4.445,0.635) F11(5.715,0.635) F12(6.985,0.635) G1(-6.985,-0.635) G2(-5.715,-0.635) G3(-4.445,-0.635) G4(-3.175,-0.635) G5(-1.905,-0.635) G6(-0.635,-0.635) G7(0.635,-0.635) G8(1.905,-0.635) G9(3.175,-0.635) G10(4.445,-0.635) G11(5.715,-0.635) G12(6.985,-0.635) H1(-6.985,-1.905) H2(-5.715,-1.905) H3(-4.445,-1.905) H4(-3.175,-1.905) H5(-1.905,-1.905) H6(-0.635,-1.905) H7(0.635,-1.905) H8(1.905,-1.905) H9(3.175,-1.905) H10(4.445,-1.905) H11(5.715,-1.905) H12(6.985,-1.905) J1(-6.985,-3.175) J2(-5.715,-3.175) J3(-4.445,-3.175) J4(-3.175,-3.175) J5(-1.905,-3.175) J6(-0.635,-3.175) J7(0.635,-3.175) J8(1.905,-3.175) J9(3.175,-3.175) J10(4.445,-3.175) J11(5.715,-3.175) J12(6.985,-3.175) K1(-6.985,-4.445) K2(-5.715,-4.445) K3(-4.445,-4.445) K4(-3.175,-4.445) K5(-1.905,-4.445) K6(-0.635,-4.445) K7(0.635,-4.445) K8(1.905,-4.445) K9(3.175,-4.445) K10(4.445,-4.445) K11(5.715,-4.445) K12(6.985,-4.445) L1(-6.985,-5.715) L2(-5.715,-5.715) L3(-4.445,-5.715) L4(-3.175,-5.715) L5(-1.905,-5.715) L6(-0.635,-5.715) L7(0.635,-5.715) L8(1.905,-5.715) L9(3.175,-5.715) L10(4.445,-5.715) L11(5.715,-5.715) L12(6.985,-5.715) M1(-6.985,-6.985) M2(-5.715,-6.985) M3(-4.445,-6.985) M4(-3.175,-6.985) M5(-1.905,-6.985) M6(-0.635,-6.985) M7(0.635,-6.985) M8(1.905,-6.985) M9(3.175,-6.985) M10(4.445,-6.985) M11(5.715,-6.985) M12(6.985,-6.985)
Top Overlay:
  circle w0.25: c-8.75,7.95 r0.125
  region: -7.1,8.1 -8.1,7.1 -8.1,8.1
  lines w0.2: -8.1,7.1 -7.1,8.1 ; -8.1,-8.1 -8.1,8.1 8.1,8.1 8.1,-8.1 -8.1,-8.1
Top Assembly:
  lines w0.1: -8.1,-8.1 -8.1,8.1 8.1,8.1 8.1,-8.1 -8.1,-8.1
Top Courtyard (Mech15):
  lines w0.05: -8.35,-8.35 -8.35,8.35 8.35,8.35 8.35,-8.35 -8.35,-8.35
  lines w0.1: -0.5,0 0.5,0 ; 0,-0.5 0,0.5
3D body "BGA144C127P12X12_1620X1620X360.step": height 3.6, standoff 0, extent -8.1,-8.1 8.1,8.1